# Altium footprint library Device.PcbLib: 66 footprints (part 4 of 5)
Each footprint in its own frame and in the unit in brackets; x right, y up, seen from the top. Pads: shape width x height; smd on the part's side, far side on the other; paste and mask are expansions set on the pad; w line width, h text height; cw(c..) or ccw(c..) is an arc to the next point about the centre after c.
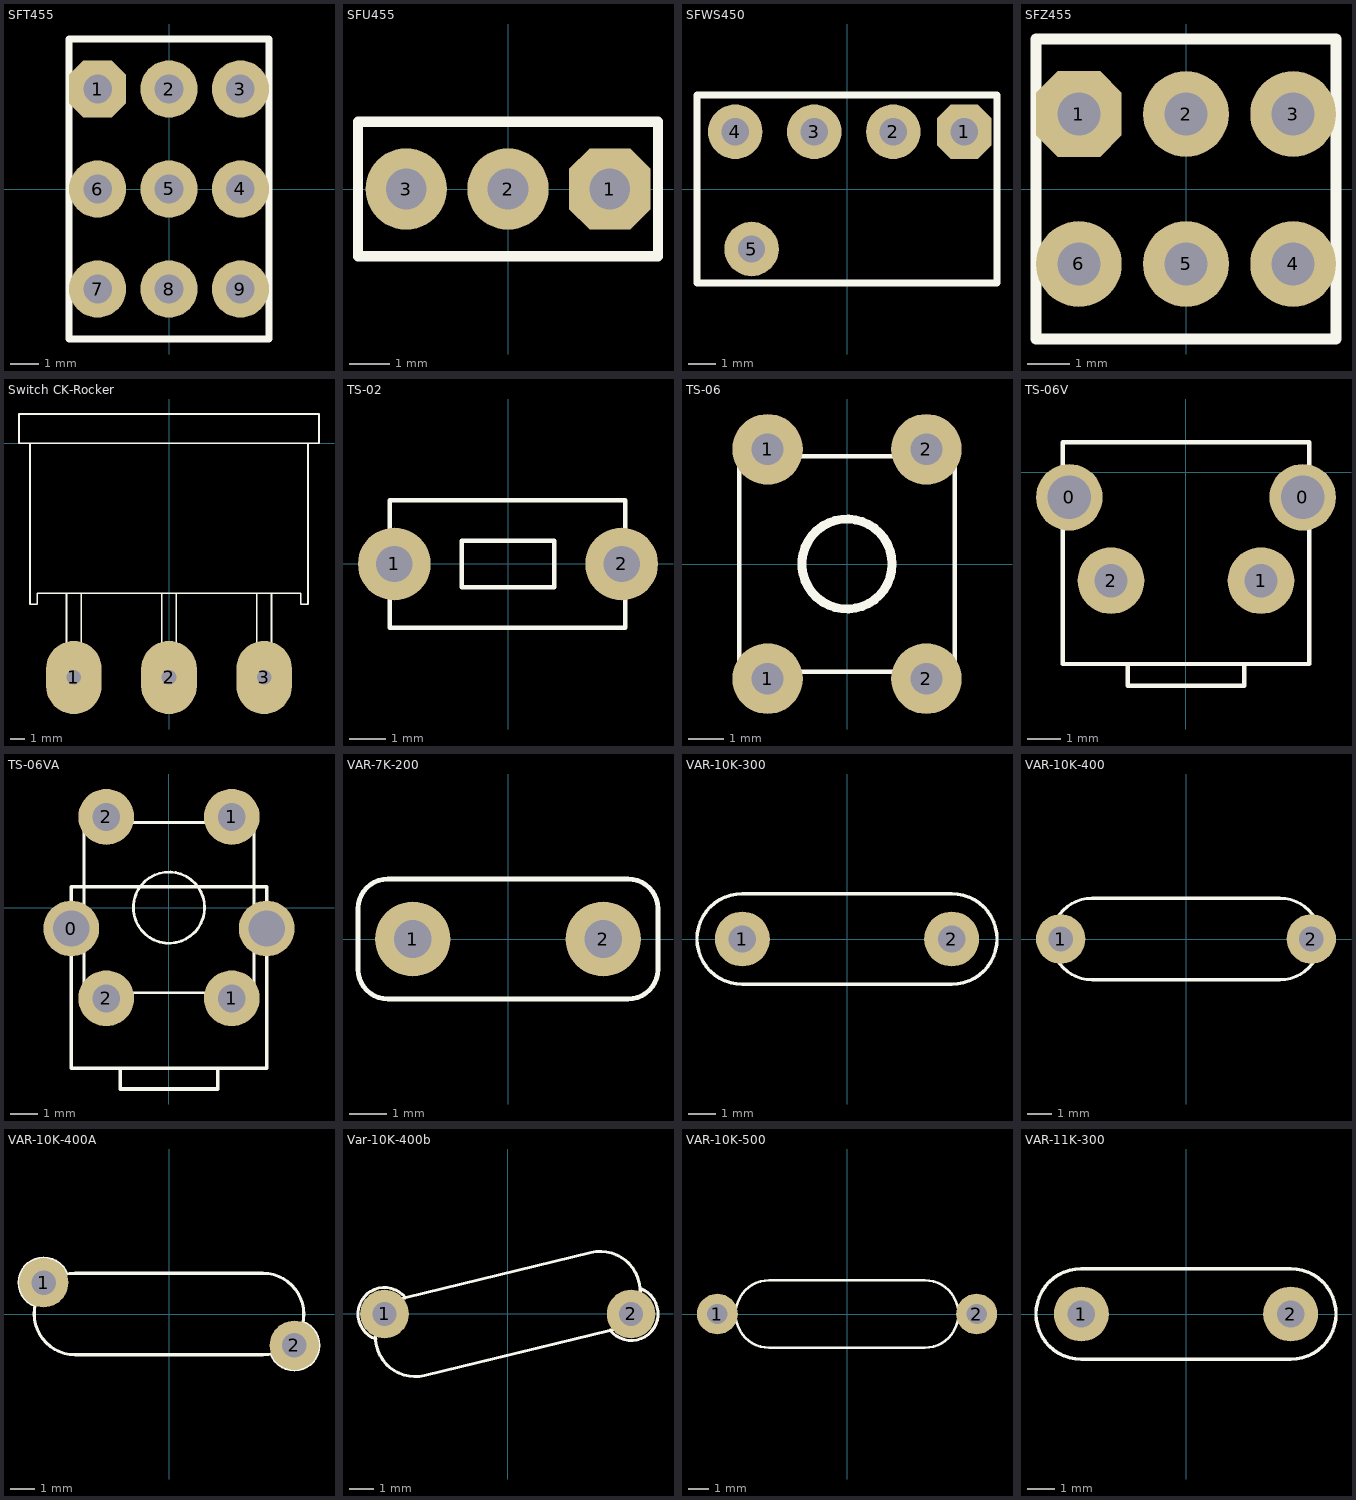
[diagram p3: the footprints below, top view; thin cyan lines are the x and y axes]

## SFT455 [mm]
pads (9):
  oct 2x2 hole 1: 1(-2.5,3.5)
  round 2 hole 1: 2(0,3.5) 3(2.5,3.5) 4(2.5,0) 5(0,0) 6(-2.5,0) 7(-2.5,-3.5) 8(0,-3.5) 9(2.5,-3.5)
Top Overlay:
  lines w0.254: -3.5,-5.25 3.5,-5.25 3.5,5.25 -3.5,5.25 -3.5,-5.25

## SFU455 [mm]
pads (3):
  oct 2x2 hole 1: 1(2.5,0)
  round 2 hole 1: 2(0,0) 3(-2.5,0)
Top Overlay:
  lines w0.254: -3.683,-1.651 -3.683,1.651 3.683,1.651 3.683,-1.651 -3.683,-1.651

## SFWS450 [mm]
pads (5):
  oct 2x2 hole 1: 1(4.3,2.1)
  round 2 hole 1: 2(1.7,2.1) 3(-1.2,2.1) 4(-4.1,2.1) 5(-3.5,-2.2)
Top Overlay:
  lines w0.254: -5.5,-3.45 -5.5,3.45 5.5,3.45 5.5,-3.45 -5.5,-3.45

## SFZ455 [mm]
pads (6):
  oct 2x2 hole 1: 1(-2.5,1.75)
  round 2 hole 1: 2(0,1.75) 3(2.5,1.75) 4(2.5,-1.75) 5(0,-1.75) 6(-2.5,-1.75)
Top Overlay:
  lines w0.254: -3.5,-3.5 -3.5,3.5 3.5,3.5 3.5,-3.5 -3.5,-3.5

## Switch CK-Rocker [mm]
pads (3):
  oval 3.8x5 hole 1: 1(-6.5,-16) 2(0,-16) 3(6.5,-16)
Top Overlay:
  lines w0.127: -9.5,0 -9.5,-11 -9,-11 -9,-10.25 9,-10.25 9,-11 9.5,-11 9.5,0 ; -7,-10.25 -7,-17.5 -6,-17.5 -6,-10.25 ; -0.5,-10.25 -0.5,-17.5 0.5,-17.5 0.5,-10.25 ; 6,-10.25 6,-17.5 7,-17.5 7,-10.25 ; -10.25,0 0,0 10.25,0 10.25,2 -10.25,2 -10.25,0
3D body: height 13.51, standoff -1.51, extent -10.643,-18.193 10.643,5.294

## TS-02 [mm]
pads (2):
  round 2 hole 1: 1(-3.125,0) 2(3.125,0)
Top Overlay:
  lines w0.127: -3.25,-1.75 3.225,-1.75 3.225,1.75 -3.25,1.75 -3.25,-1.75 ; -1.27,-0.635 1.27,-0.635 1.27,0.635 -1.27,0.635 -1.27,-0.635
3D body: height 5, standoff -2, extent -3.25,-1.75 3.25,1.75

## TS-06 [mm]
pads (4):
  round 2 hole 0.9: 1(-2.25,-3.25) 1(-2.25,3.25) 2(2.25,-3.25) 2(2.25,3.25)
Top Overlay:
  circle w0.254: c0,0 r1.276
  lines w0.127: -3.048,-3.048 3.048,-3.048 3.048,3.048 0,3.048 -3.048,3.048 -3.048,-3.048
3D body: height 3.95, standoff -2.54, extent -3,-3.302 3,3.302

## TS-06V [mm]
pads (4):
  round 2 hole 1.3 unplated: 0(-3.5,-0.75)
  round 2 hole 1.3: 0(3.5,-0.75)
  round 2 hole 1: 1(2.25,-3.25) 2(-2.25,-3.25)
Top Overlay:
  lines w0.127: -1.75,-5.75 -1.75,-6.4 1.75,-6.4 1.75,-5.75 ; -3.7,-5.75 3.7,-5.75 3.7,0.9 -3.7,0.9 -3.7,-5.75
3D body: height 7, standoff -2, extent -3.7,-6.4 3.7,0.9

## TS-06VA [mm]
pads (6):
  round 2 hole 1.3 unplated: 0(-3.5,-0.75)
  round 2 hole 1: 1(2.25,-3.25) 1(2.25,3.25) 2(-2.25,-3.25) 2(-2.25,3.25)
  round 2 hole 1.3: ""(3.5,-0.75)
Top Overlay:
  circle w0.1: c0,0 r1.276
  lines w0.1: -3.048,-3.048 -3.048,3.048 3.048,3.048 3.048,-3.048 0,-3.048 -3.048,-3.048
  lines w0.127: -1.75,-5.75 -1.75,-6.5 1.75,-6.5 1.75,-5.75 ; -3.5,-5.75 -3.5,0.75 3.5,0.75 3.5,-5.75 -3.5,-5.75

## VAR-7K-200 [mm]
pads (2):
  round 2 hole 1: 1(-2.54,0) 2(2.54,0)
Top Overlay:
  lines w0.127: -4,-0.8 ccw(c-3.2,-0.8) -3.2,-1.6 3.2,-1.6 ccw(c3.2,-0.8) 4,-0.8 4,0.8 ccw(c3.2,0.8) 3.2,1.6 -3.2,1.6 ccw(c-3.2,0.8) -4,0.8 -4,-0.8
3D body: height 11, standoff -1.57, extent -4,-1.66 4,1.65

## VAR-10K-300 [mm]
pads (2):
  round 2 hole 1: 1(-3.81,0) 2(3.81,0)
Top Overlay:
  lines w0.127: -3.81,-1.651 cw(c-3.81,0) -3.81,1.651 3.81,1.651 cw(c3.81,0) 3.81,-1.651 -3.81,-1.651
3D body: height 12, standoff -2.5, extent -5.494,-1.778 5.49,1.736

## VAR-10K-400 [mm]
pads (2):
  round 2 hole 1: 1(-5.08,0) 2(5.08,0)
Top Overlay:
  lines w0.127: -3.81,-1.651 cw(c-3.81,0) -3.81,1.651 3.81,1.651 cw(c3.81,0) 3.81,-1.651 -3.81,-1.651

## VAR-10K-400A [mm]
pads (2):
  round 2 hole 1: 1(-5.08,1.27) 2(5.08,-1.27)
Top Overlay:
  lines w0.127: -5.431,0.334 cw(c-5.08,1.27) -4.144,1.621 ; 4.144,-1.621 ccw(c5.08,-1.27) 5.431,-0.334 ; -3.81,-1.651 cw(c-3.81,0) -3.81,1.651 3.81,1.651 cw(c3.81,0) 3.81,-1.651 -3.81,-1.651

## Var-10K-400b [mm]
pads (2):
  round 2 hole 1: 1(-5.08,0) 2(5.08,0)
Top Overlay:
  lines w0.127: -5.425,-1.036 cw(c-5.08,0) -4.217,0.67 ; 4.217,-0.67 ccw(c5.085,0.011) 5.471,1.044 ; -4.202,0.681 ccw(c-3.803,-0.927) -3.429,-2.54 4.202,-0.681 ccw(c3.8,0.926) 3.429,2.54 -4.202,0.681

## VAR-10K-500 [mm]
pads (2):
  round 2 hole 1: 1(-6.35,0) 2(6.35,0)
Top Overlay:
  lines w0.127: -3.81,-1.651 cw(c-3.81,0) -3.81,1.651 3.81,1.651 cw(c3.81,0) 3.81,-1.651 -3.81,-1.651

## VAR-11K-300 [mm]
pads (2):
  round 2 hole 1: 1(-3.81,0) 2(3.81,0)
Top Overlay:
  lines w0.127: -3.81,-1.651 cw(c-3.81,0) -3.81,1.651 3.81,1.651 cw(c3.81,0) 3.81,-1.651 -3.81,-1.651
3D body: height 12, standoff -2.5, extent -5.498,-1.778 5.492,1.736